# Altium integrated library Resistors.IntLib: 33 symbols
Pins are listed as number, name and electrical type; pins without a type are passive.

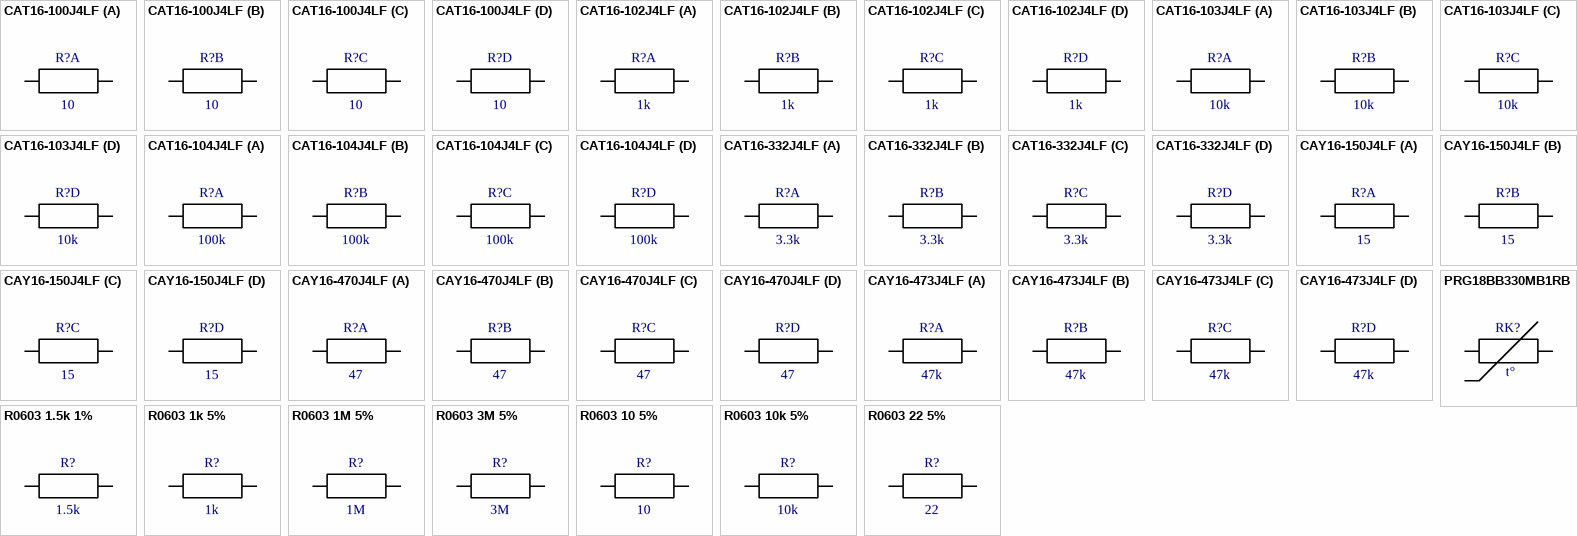
[diagram p0: symbols CAT16-100J4LF to R0603 22 5%]

## CAT16-100J4LF
designator R?  value 10  (hidden comment: *)
Manufacturer: Bourns; PartNumber: CAT16-100J4LF; Tolerance: 5%; Name: Резисторная сборка CAT16-100J4LF; 1Ccode: *; 1Cname: *; 1CfullName: *; 1Cgroup: *; 1Carticle: *; Case: 1206; ComponentLink1Description: DatasheetLink; ComponentLink1URL: https://www.bourns.com/docs/product-datasheets/catcay.pdf
footprint CAT16-J4 (Chip Resistor Array)
part A pins: 1, 8
part B pins: 2, 7
part C pins: 3, 6
part D pins: 4, 5

## CAT16-102J4LF
designator R?  value 1k  (hidden comment: *)
Manufacturer: Bourns; PartNumber: CAT16-102J4LF; Tolerance: 5%; 1Ccode: М00035132; 1Cname: CAT16-102J4LF, резистор; 1Cgroup: 01010602; 1Carticle: 18312; Name: Резисторная сборка CAT16-102J4LF; 1CfullName: CAT16-102J4LF, резистор; Case: 1206; ComponentLink1Description: DatasheetLink; ComponentLink1URL: https://www.bourns.com/docs/product-datasheets/catcay.pdf
footprint CAT16-J4 (Chip Resistor Array)
part A pins: 1, 8
part B pins: 2, 7
part C pins: 3, 6
part D pins: 4, 5

## CAT16-103J4LF
designator R?  value 10k  (hidden comment: *)
Manufacturer: Bourns; PartNumber: CAT16-103J4LF; Tolerance: 5%; 1Ccode: М00035133; 1Cname: CAT16-103J4LF, резистор; 1Cgroup: 01010602; 1Carticle: 18313; Name: Резисторная сборка CAT16-103J4LF; 1CfullName: CAT16-103J4LF, резистор; Case: 1206; ComponentLink1Description: DatasheetLink; ComponentLink1URL: https://www.bourns.com/docs/product-datasheets/catcay.pdf
footprint CAT16-J4 (Chip Resistor Array)
part A pins: 1, 8
part B pins: 2, 7
part C pins: 3, 6
part D pins: 4, 5

## CAT16-104J4LF
designator R?  value 100k  (hidden comment: *)
Manufacturer: Bourns; PartNumber: CAT16-104J4LF; Tolerance: 5%; 1Ccode: М00100029; 1Cname: Резистор CAT16-104J4LF 4*100кОм; 1Cgroup: 01010602; 1Carticle: 89341; Name: Резисторная сборка CAT16-104J4LF; 1CfullName: Резистор CAT16-104J4LF 4*100кОм; Case: 1206; ComponentLink1Description: DatasheetLink; ComponentLink1URL: https://www.bourns.com/docs/product-datasheets/catcay.pdf
footprint CAT16-J4 (Chip Resistor Array)
part A pins: 1, 8
part B pins: 2, 7
part C pins: 3, 6
part D pins: 4, 5

## CAT16-332J4LF
designator R?  value 3.3k  (hidden comment: *)
Manufacturer: Bourns; PartNumber: CAT16-332J4LF; Tolerance: 5%; 1Ccode: М00100025; 1Cname: Резистор CAT16-332J4LF 4x3.3кОм; 1Cgroup: 01010602; 1Carticle: 89337; Name: Резисторная сборка CAT16-332J4LF; 1CfullName: Резистор CAT16-332J4LF 4x3.3кОм; Case: 1206; ComponentLink1Description: DatasheetLink; ComponentLink1URL: https://www.bourns.com/docs/product-datasheets/catcay.pdf
footprint CAT16-J4 (Chip Resistor Array)
part A pins: 1, 8
part B pins: 2, 7
part C pins: 3, 6
part D pins: 4, 5

## CAY16-150J4LF
designator R?  value 15  (hidden comment: *)
Manufacturer: Bourns; PartNumber: CAY16-150J4LF; Tolerance: 5%; 1Ccode: М00031696; 1Cname: СAY16-150J4 BRN резисторная сборка; 1Cgroup: 01010602; 1Carticle: 3247; Name: Резисторная сборка CAY16-150J4LF; 1CfullName: СAY16-150J4 BRN резисторная сборка; Case: 1206; ComponentLink1Description: DatasheetLink; ComponentLink1URL: https://www.bourns.com/docs/product-datasheets/catcay.pdf
footprint CAY16-J4 (Chip Resistor, 2-Leads, Body 1,60x0,85mm, IPC Low Density)
part A pins: 1, 8
part B pins: 2, 7
part C pins: 3, 6
part D pins: 4, 5

## CAY16-470J4LF
designator R?  value 47  (hidden comment: *)
Manufacturer: Bourns; PartNumber: CAY16-470J4LF; Tolerance: 5%; 1Ccode: М00100026; 1Cname: Резисторная сбока CAY16-470J4 4х47; 1Cgroup: 01010602; 1Carticle: 89338; Name: Резисторная сборка CAY16-470J4LF; 1CfullName: Резисторная сбока CAY16-470J4 4х47; Case: 1206; ComponentLink1Description: DatasheetLink; ComponentLink1URL: https://www.bourns.com/docs/product-datasheets/catcay.pdf
footprint CAY16-J4 (Chip Resistor, 2-Leads, Body 1,60x0,85mm, IPC Low Density)
part A pins: 1, 8
part B pins: 2, 7
part C pins: 3, 6
part D pins: 4, 5

## CAY16-473J4LF
designator R?  value 47k  (hidden comment: *)
Manufacturer: Bourns; PartNumber: CAY16-473J4LF; Tolerance: 5%; 1Ccode: М00093026; 1Cname: Резисторная сбока CAY16-473J4 4х47; 1Cgroup: 01010602; 1Carticle: 82377; Name: Резисторная сборка CAY16-473J4; 1CfullName: Резисторная сбока CAY16-473J4 4х47; Case: 1206; ComponentLink1Description: DatasheetLink; ComponentLink1URL: https://www.bourns.com/docs/product-datasheets/catcay.pdf
footprint CAY16-J4 (Chip Resistor, 2-Leads, Body 1,60x0,85mm, IPC Low Density)
part A pins: 1, 8
part B pins: 2, 7
part C pins: 3, 6
part D pins: 4, 5

## PRG18BB330MB1RB
designator RK?  (value not drawn)
Manufacturer: Murata; PartNumber: PRG18BB330MB1RB; Tolerance: 20%; 1Ccode: М00035582; 1Cname: PRG18BB330MB1RB 33e 20%; 1Cgroup: 01010602; 1Carticle: 18681; Name: Термистор PRG18BB330MB1RB; Value: 33 Ohm; 1CfullName: PRG18BB330MB1RB 33e 20%; Case: 0603; ComponentLink1Description: DatasheetLink; ComponentLink1URL: https://www.murata.com/en-global/api/pdfdownloadapi?cate=luPTCforCircuProte&partno=PRG18BB330MB1RB
footprint THR0603 (Chip Thermistor, 2-Leads, Body 1,60x0,85mm, IPC Low Density)
pins: 1, 2
text: t°

## R0603 1.5k 1%
designator R?  value 1.5k  (hidden comment: *)
Tolerance: 1%; 1Ccode: М00072425; 1Cname: R0603-1%-1.5k; 1Cgroup: 01010602; 1Carticle: 62097; Name: Резистор 0603 1,5 кОм 1%; 1CfullName: R0603-1%-1.5k; Manufacturer: *; PartNumber: *; DatasheetLink: *; Case: 0603
footprint RES0603 (Chip Resistor, 2-Leads, Body 1,60x0,85mm, IPC Low Density)
pins: 1, 2

## R0603 1k 5%
designator R?  value 1k  (hidden comment: *)
Tolerance: 5%; 1Ccode: М00004747; 1Cname: R0603-5%-1k; 1Cgroup: 01010602; 1Carticle: 5907; Name: Резистор 0603 1 кОм 5%; 1CfullName: R0603-5%-1k; Manufacturer: *; PartNumber: *; DatasheetLink: *; Case: 0603
footprint RES0603 (Chip Resistor, 2-Leads, Body 1,60x0,85mm, IPC Low Density)
pins: 1, 2

## R0603 1M 5%
designator R?  value 1M  (hidden comment: *)
Tolerance: 5%; 1Ccode: М00007107; 1Cname: R0603-5%-1M; 1Cgroup: 01010602; 1Carticle: 7248; Name: Резистор 0603 1 МОм 5%; 1CfullName: R0603-5%-1M; Manufacturer: *; PartNumber: *; DatasheetLink: *; Case: 0603
footprint RES0603 (Chip Resistor, 2-Leads, Body 1,60x0,85mm, IPC Low Density)
pins: 1, 2

## R0603 3M 5%
designator R?  value 3M  (hidden comment: *)
Tolerance: 5%; 1Ccode: М00046458; 1Cname: R0603-5%-3M; 1Cgroup: 01010602; 1Carticle: 35135; Name: Резистор 0603 3 МОм 5%; 1CfullName: R0603-5%-3M; Manufacturer: *; PartNumber: *; DatasheetLink: *; Case: 0603
footprint RES0603 (Chip Resistor, 2-Leads, Body 1,60x0,85mm, IPC Low Density)
pins: 1, 2

## R0603 10 5%
designator R?  value 10  (hidden comment: *)
Tolerance: 5%; 1Ccode: М00020908; 1Cname: R0603-5%-10; 1Cgroup: 01010602; 1Carticle: 14408; Name: Резистор 0603 10 Ом 5%; 1CfullName: R0603-5%-10; Manufacturer: *; PartNumber: *; DatasheetLink: *; Case: 0603
footprint RES0603 (Chip Resistor, 2-Leads, Body 1,60x0,85mm, IPC Low Density)
pins: 1, 2

## R0603 10k 5%
designator R?  value 10k  (hidden comment: *)
Tolerance: 5%; 1Ccode: М00004744; 1Cname: R0603-5%-10k; 1Cgroup: 01010602; 1Carticle: 5904; Name: Резистор 0603 10 кОм 5%; 1CfullName: R0603-5%-10k; Manufacturer: *; PartNumber: *; DatasheetLink: *; Case: 0603
footprint RES0603 (Chip Resistor, 2-Leads, Body 1,60x0,85mm, IPC Low Density)
pins: 1, 2

## R0603 22 5%
designator R?  value 22  (hidden comment: *)
Tolerance: 5%; 1Ccode: М00027875; 1Cname: R0603-5%-22; 1Cgroup: 01010602; 1Carticle: 16261; Name: Резистор 0603 22 Ом 5%; 1CfullName: R0603-5%-22; Manufacturer: *; PartNumber: *; DatasheetLink: *; Case: 0603
footprint RES0603 (Chip Resistor, 2-Leads, Body 1,60x0,85mm, IPC Low Density)
pins: 1, 2

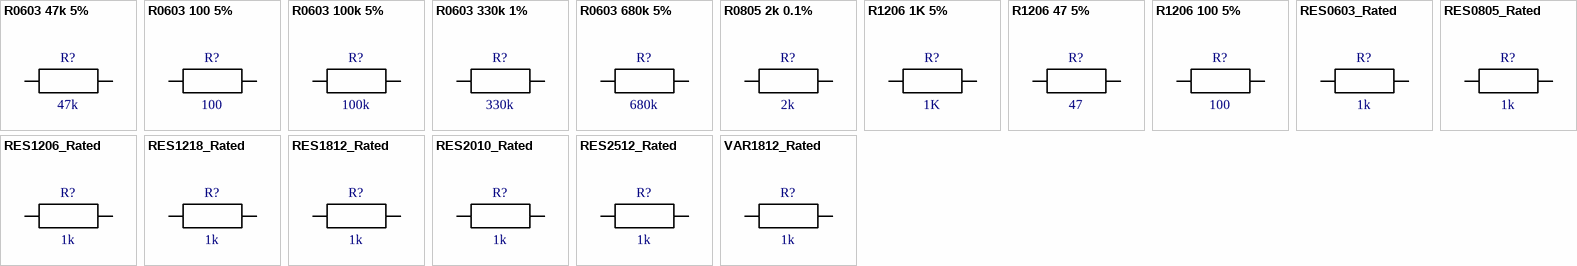
[diagram p1: symbols R0603 47k 5% to VAR1812_Rated]

## R0603 47k 5%
designator R?  value 47k  (hidden comment: *)
Tolerance: 5%; 1Ccode: М00030443; 1Cname: R0603-5%-47k; 1Cgroup: 01010602; 1Carticle: 13641; Name: Резистор 0603 47 кОм 5%; 1CfullName: R0603-5%-47k; Manufacturer: *; PartNumber: *; DatasheetLink: *; Case: 0603
footprint RES0603 (Chip Resistor, 2-Leads, Body 1,60x0,85mm, IPC Low Density)
pins: 1, 2

## R0603 100 5%
designator R?  value 100  (hidden comment: *)
Tolerance: 5%; 1Ccode: М00017649; 1Cname: R0603-5%-100; 1Cgroup: 01010602; 1Carticle: 5916; Name: Резистор 0603 100 Ом 5%; 1CfullName: R0603-5%-100; Manufacturer: *; PartNumber: *; DatasheetLink: *; Case: 0603
footprint RES0603 (Chip Resistor, 2-Leads, Body 1,60x0,85mm, IPC Low Density)
pins: 1, 2

## R0603 100k 5%
designator R?  value 100k  (hidden comment: *)
Tolerance: 5%; 1Ccode: М00004746; 1Cname: R0603-5%-100k; 1Cgroup: 01010602; 1Carticle: 5906; Name: Резистор 0603 100 кОм 5%; 1CfullName: R0603-5%-100k; Manufacturer: *; PartNumber: *; DatasheetLink: *; Case: 0603
footprint RES0603 (Chip Resistor, 2-Leads, Body 1,60x0,85mm, IPC Low Density)
pins: 1, 2

## R0603 330k 1%
designator R?  value 330k  (hidden comment: *)
PartNumber: RC0603FR-07330KL; Tolerance: 1%; 1Ccode: М00050973; 1Cname: R0603-1%-330k (RC0603FR-07330KL); 1Cgroup: 01010602; 1Carticle: 39617; Name: Резистор 0603 330 кОм 1%; 1CfullName: R0603-1%-330k (RC0603FR-07330KL); Manufacturer: *; DatasheetLink: *; Case: 0603
footprint RES0603 (Chip Resistor, 2-Leads, Body 1,60x0,85mm, IPC Low Density)
pins: 1, 2

## R0603 680k 5%
designator R?  value 680k  (hidden comment: *)
Tolerance: 5%; 1Ccode: М00027785; 1Cname: R0603-5%-680k; 1Cgroup: 01010602; 1Carticle: 16307; Name: Резистор 0603 680 кОм 5%; 1CfullName: R0603-5%-680k; Manufacturer: *; PartNumber: *; DatasheetLink: *; Case: 0603
footprint RES0603 (Chip Resistor, 2-Leads, Body 1,60x0,85mm, IPC Low Density)
pins: 1, 2

## R0805 2k 0.1%
designator R?  value 2k  (hidden comment: *)
Tolerance: 0.1%; 1Ccode: М00049947; 1Cname: R0805-0,1%-2k-25ppm; 1Cgroup: 01010602; 1Carticle: 38583; Name: Резистор 0805 2 кОм 0,1%; 1CfullName: R0805-0,1%-2k-25ppm; Manufacturer: *; PartNumber: *; DatasheetLink: *; Case: 0805
footprint RES0805 (Chip Resistor, 2-Leads, Body 2,00x1,25mm, IPC Low Density)
pins: 1, 2

## R1206 1K 5%
designator R?  value 1K  (hidden comment: *)
Tolerance: 5%; 1Ccode: М00001685; 1Cname: R1206-5%-1K; 1Cgroup: 01010602; 1Carticle: 1697; Name: Резистор 1206 100 Ом 5%; 1CfullName: R1206-5%-1K; Manufacturer: *; PartNumber: *; DatasheetLink: *; Case: 1206
footprint RES1206 (Chip Resistor, 2-Leads)
pins: 1, 2

## R1206 47 5%
designator R?  value 47  (hidden comment: *)
Tolerance: 5%; 1Ccode: М00002018; 1Cname: R1206-5%-47; 1Cgroup: 01010602; 1Carticle: 2918; Name: Резистор 1206 47 Ом 5%; 1CfullName: R1206-5%-47; Manufacturer: *; PartNumber: *; DatasheetLink: *; Case: 1206
footprint RES1206 (Chip Resistor, 2-Leads)
pins: 1, 2

## R1206 100 5%
designator R?  value 100  (hidden comment: *)
Tolerance: 5%; 1Ccode: М00035940; 1Cname: R1206-5%-100; 1Cgroup: 01010602; 1Carticle: 19008; Name: Резистор 1206 100 Ом 5%; 1CfullName: R1206-5%-100; Manufacturer: *; PartNumber: *; DatasheetLink: *; Case: 1206
footprint RES1206 (Chip Resistor, 2-Leads)
pins: 1, 2

## RES0603_Rated
designator R?  value 1k  (hidden comment: *)
Tolerance: 5%; 1Ccode: *; 1Cname: *; 1CfullName: *; 1Cgroup: *; 1Carticle: *; Name: *; Manufacturer: *; PartNumber: *; DatasheetLink: *; Case: *
footprint RES0603 (Chip Resistor, 2-Leads, Body 1,60x0,85mm, IPC Low Density)
pins: 1, 2

## RES0805_Rated
designator R?  value 1k  (hidden comment: *)
Tolerance: 5%; 1Ccode: *; 1Cname: *; 1CfullName: *; 1Cgroup: *; 1Carticle: *; Name: *; Manufacturer: *; PartNumber: *; DatasheetLink: *; Case: *
footprint RES0805 (Chip Resistor, 2-Leads, Body 2,00x1,25mm, IPC Low Density)
pins: 1, 2

## RES1206_Rated
designator R?  value 1k  (hidden comment: *)
Tolerance: 5%; 1Ccode: *; 1Cname: *; 1CfullName: *; 1Cgroup: *; 1Carticle: *; Name: *; Manufacturer: *; PartNumber: *; DatasheetLink: *; Case: *
footprint RES1206
pins: 1, 2

## RES1218_Rated
designator R?  value 1k  (hidden comment: *)
Tolerance: 5%; 1Ccode: *; 1Cname: *; 1CfullName: *; 1Cgroup: *; 1Carticle: *; Name: *; Manufacturer: *; PartNumber: *; DatasheetLink: *; Case: *
footprint RES1218
pins: 1, 2

## RES1812_Rated
designator R?  value 1k  (hidden comment: *)
Tolerance: 5%; 1Ccode: *; 1Cname: *; 1CfullName: *; 1Cgroup: *; 1Carticle: *; Name: *; Manufacturer: *; PartNumber: *; DatasheetLink: *; Case: *
footprint RES1812 (Chip Resistor, 2-Leads, Body 4,50x3,20mm, IPC Low Density)
pins: 1, 2

## RES2010_Rated
designator R?  value 1k  (hidden comment: *)
Tolerance: 5%; 1Ccode: *; 1Cname: *; 1CfullName: *; 1Cgroup: *; 1Carticle: *; Name: *; Manufacturer: *; PartNumber: *; DatasheetLink: *; Case: *
footprint RES2010
pins: 1, 2

## RES2512_Rated
designator R?  value 1k  (hidden comment: *)
Tolerance: 5%; 1Ccode: *; 1Cname: *; 1CfullName: *; 1Cgroup: *; 1Carticle: *; Name: *; Manufacturer: *; PartNumber: *; DatasheetLink: *; Case: *
footprint RES2512
pins: 1, 2

## VAR1812_Rated
designator R?  value 1k  (hidden comment: *)
Tolerance: 5%; 1Ccode: *; 1Cname: *; 1CfullName: *; 1Cgroup: *; 1Carticle: *; Name: *; Manufacturer: *; PartNumber: *; DatasheetLink: *; Case: *
footprint VAR1812 (Chip Resistor, 2-Leads, Body 4,50x3,20mm, IPC Low Density)
pins: 1, 2